# Altium integrated library DRA818V.IntLib: 1 symbol
Pins are listed as number, name and electrical type; pins without a type are passive.

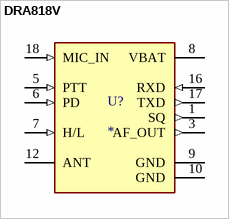
[diagram p0: symbol DRA818V]

## DRA818V
designator U?
VHF Band Voice Transceiver Module; MF: DORJI; MP: DRA818V; Price: None; Check_prices: https://www.snapeda.com/parts/DRA818V/DORJI/view-part/2654524/?ref=eda; SnapEDA_Link: https://www.snapeda.com/parts/DRA818V/DORJI/view-part/2654524/?ref=snap; Package: Package; Availability: Unavailable; Value: *
footprint DORJI_DRA818V
pins: 1 SQ (out), 3 AF_OUT (out), 5 PTT (in), 6 PD (in), 7 H/L (in), 8 VBAT (power), 9 GND (power), 10 GND (power), 12 ANT, 16 RXD (in), 17 TXD (out), 18 MIC_IN (in)